# Altium footprint library CaRe_PCBLib.PcbLib: 40 footprints (part 2 of 3)
Each footprint in its own frame and in the unit in brackets; x right, y up, seen from the top. Pads: shape width x height; smd on the part's side, far side on the other; paste and mask are expansions set on the pad; w line width, h text height; cw(c..) or ccw(c..) is an arc to the next point about the centre after c.
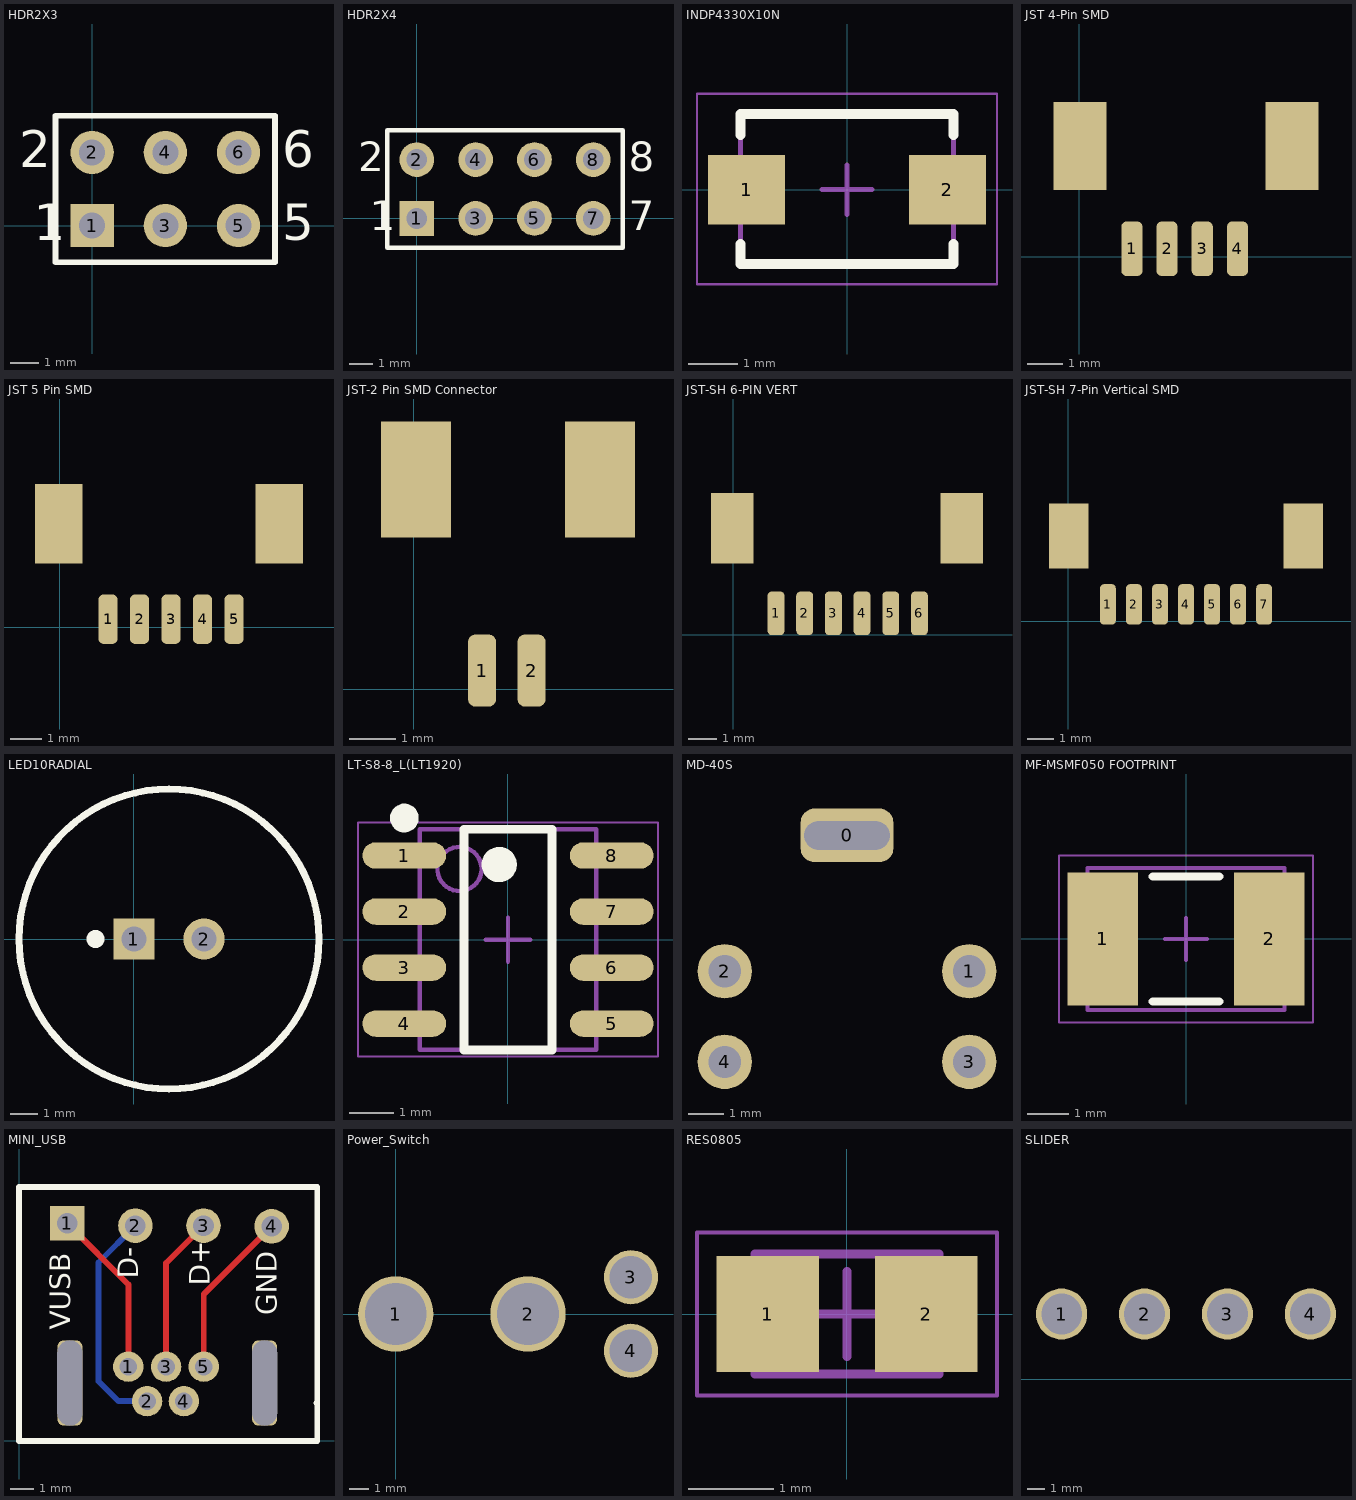
[diagram p1: the footprints below, top view; thin cyan lines are the x and y axes]

## HDR2X3 [mm] "Connector; Header; 3x2 Position"
pads (6):
  rect 1.5x1.5 hole 0.9: 1(0,0)
  round 1.5 hole 0.9: 2(0,2.54) 3(2.54,0) 4(2.54,2.54) 5(5.08,0) 6(5.08,2.54)
Top Overlay:
  lines w0.2: 1.482,-1.27 6.35,-1.27 ; 6.35,-1.27 6.35,3.81 -1.27,3.81 -1.27,-1.27 6.35,-1.27
  text "6" at 6.604,2.032 h1.27
  text "5" at 6.604,-0.508 h1.27
  text "2" at -2.54,2.032 h1.27
  text "1" at -2.032,-0.508 h1.27

## HDR2X4 [mm] "Connector; Header; 4x2 Position"
pads (8):
  rect 1.5x1.5 hole 0.9: 1(0,0)
  round 1.5 hole 0.9: 2(0,2.54) 3(2.54,0) 4(2.54,2.54) 5(5.08,0) 6(5.08,2.54) 7(7.62,0) 8(7.62,2.54)
Top Overlay:
  lines w0.2: -1.27,-1.27 8.89,-1.27 8.89,3.81 -1.27,3.81 -1.27,-1.27
  text "2" at -2.54,2.032 h1.27
  text "1" at -2.032,-0.508 h1.27
  text "7" at 9.144,-0.508 h1.27
  text "8" at 9.144,2.032 h1.27

## INDP4330X10N [mm] "Precision Wire Wound Inductor, 2-Leads, Body 4.30x3.00mm, IPC Medium Density"
height 1
pads (2):
  rect 1.55x1.4 smd: 1(-2.025,0) 2(2.025,0)
Top Overlay:
  lines w0.2: -2.15,-1.1 -2.15,-1.5 2.15,-1.5 2.15,-1.1 ; -2.15,1.1 -2.15,1.524 2.15,1.524 2.15,1.1
Mechanical 13:
  lines w0.1: -2.15,-1.5 -2.15,1.524 2.15,1.524 2.15,-1.5 -2.15,-1.5
Mechanical 15:
  lines w0.05: -3.025,-1.905 -3.025,1.93 3.025,1.93 3.025,-1.905 -3.025,-1.905
  lines w0.1: -0.5,0 0.5,0 ; 0,-0.5 0,0.5

## JST 4-Pin SMD [mm] "BM04B-SRSS-TB"
pads (6):
  rrect50% 0.6x1.55 smd: 1(1.499,0.229) 2(2.498,0.229) 3(3.497,0.229) 4(4.496,0.229)
  rect 1.5x2.5 smd: ""(0.025,3.15) ""(6.045,3.15)
3D body: height 4.25, standoff -0.07, extent 0,0 6,3.6

## JST 5 Pin SMD [mm] "BM05B-SRSS-TB"
pads (7):
  rrect50% 0.6x1.55 smd: 1(1.524,0.254) 2(2.515,0.254) 3(3.505,0.254) 4(4.496,0.254) 5(5.486,0.254)
  rect 1.5x2.5 smd: ""(-0.025,3.251) ""(6.909,3.251)
3D body: height -0.43, standoff -4.75, extent 0,0 7,3.6

## JST-2 Pin SMD Connector [mm] "SM02B-SRSS-TB"
pads (4):
  rrect50% 0.6x1.55 smd: 1(1.473,0.406) 2(2.54,0.406)
  rect 1.5x2.5 smd: ""(0.051,4.521) ""(4.013,4.521)
3D body: height 3.01, standoff 0.05, extent 0,0 4,4.95

## JST-SH 6-PIN VERT [mm]
pads (8):
  rrect50% 0.6x1.55 smd: 1(1.524,0.762) 2(2.54,0.762) 3(3.556,0.762) 4(4.572,0.762) 5(5.588,0.762) 6(6.604,0.762)
  rect 1.5x2.5 smd: ""(-0.025,3.785) ""(8.103,3.785)
3D body: height 4.25, standoff 0, extent 0.064,0.591 8.064,4.191

## JST-SH 7-Pin Vertical SMD [mm]
pads (9):
  rrect50% 0.6x1.55 smd: 1(1.524,0.635) 2(2.519,0.635) 3(3.514,0.635) 4(4.508,0.635) 5(5.503,0.635) 6(6.498,0.635) 7(7.493,0.635)
  rect 1.5x2.5 smd: ""(0.025,3.251) ""(8.992,3.251)
3D body: height 4.25, standoff -0.07, extent 0,0.21 9,3.81

## LED10RADIAL [mm] "Light Emitting Diode; 2 Leads"
pads (2):
  rect 1.5x1.5 hole 0.9: 1(0,0)
  round 1.5 hole 0.9: 2(2.54,0)
Top Overlay:
  circle w0.254: c1.27,0 r5.44
  circle w0.4: c-1.395,0 r0.125

## LT-S8-8_L(LT1920) [mm] "SOIC, 8-Leads, Body 4.9x3.9mm, Pitch 1.27mm, IPC High Density"
height 1.76
pads (8):
  oval 1.9x0.6 smd: 1(-2.35,1.905) 2(-2.35,0.635) 3(-2.35,-0.635) 4(-2.35,-1.905) 5(2.35,-1.905) 6(2.35,-0.635) 7(2.35,0.635) 8(2.35,1.905)
Top Overlay:
  circle w0.4: c-0.2,1.7 r0.2
  circle w0.4: c-2.35,2.755 r0.125
  lines w0.2: -1,-2.5 1,-2.5 1,2.5 -1,2.5 -1,-2.5
Mechanical 13:
  circle w0.1: c-1.1,1.6 r0.5
  lines w0.1: -2,-2.5 2,-2.5 2,2.5 -2,2.5 -2,-2.5
Mechanical 15:
  lines w0.05: -3.4,-2.65 3.4,-2.65 3.4,2.65 -3.4,2.65 -3.4,-2.65
  lines w0.1: -0.5,0 0.5,0 ; 0,-0.5 0,0.5
3D body: height 1.75, standoff 0, extent -3,-2.45 3,2.45

## MD-40S [mil]
pads (5):
  rrect50% 102.36x59.06 hole 31.5 slot 94.49 at 0 deg: 0(275,300)
  round 60 hole 35.43: 1(410,150) 2(140,150) 3(410,50) 4(140,50)
3D body: height 118.11, standoff -523.62, extent 0,-5 551.18,483.19

## MF-MSMF050 FOOTPRINT [mm] "PTC FUSE"
height 0.85
pads (2):
  rect 1.7x3.2 smd: 1(-2,0) 2(2,0)
Top Overlay:
  lines w0.2: -0.8,-1.5 0.8,-1.5 ; -0.8,1.5 0.8,1.5
Mechanical 13:
  lines w0.1: -2.365,-1.705 2.365,-1.705 2.365,1.705 -2.365,1.705 -2.365,-1.705
Mechanical 15:
  lines w0.05: -3.05,-2 3.05,-2 3.05,2 -3.05,2 -3.05,-2
  lines w0.1: -0.5,0 0.5,0 ; 0,-0.5 0,0.5
3D body: height 0.85, standoff 0, extent 1.965,-1.705 2.365,1.705
3D body: height 0.85, standoff 0, extent -2.365,-1.705 -1.965,1.705
3D body: height 0.85, standoff 0, extent -1.965,-1.705 1.965,1.705

## MINI_USB [mil]
pads (11):
  rect 59.06x59.06 hole 35.43: 1(82.49,372)
  round 52.13 hole 30: 1(187,127) 2(219,68) 3(251.5,127) 4(282,68) 5(316,127)
  round 59.06 hole 35.43: 2(199,368) 3(315.51,368) 4(432.02,367)
  rrect50% 42.52x145.67 hole 42.52 slot 145.67 at 90 deg unplated: ""(87,99) ""(420,99)
Top Layer:
  lines w10: 82.49,372 187,267.49 187,127 ; 251.5,127 251.5,303.99 315.51,368 ; 316,127 316,250.98 432.02,367
Bottom Layer:
  lines w10: 199,368 136,305 136,102 170,68 219,68
Top Overlay:
  lines w10: 509,0 0,0 0,434 510,434 510,0 ; 509,65 510,64
  text "GND" at 453,215 h60
  text "D+" at 338,265 h60
  text "D-" at 216,277 h60
  text "VUSB" at 100,190 h60
3D body: height 393.7, standoff -39.37, extent -142.7,-179.3 644.7,225.43

## Power_Switch [mm] "SPST Rocker w/ LED"
pads (4):
  round 3.9 hole 3.2: 1(0,0) 2(6.858,0)
  round 2.8 hole 2.2: 3(12.192,1.905) 4(12.192,-1.905)

## RES0805 [mm] "Chip Resistor, 2-Leads, Body 2.00x1.25mm, IPC Medium Density"
height 0.65
pads (2):
  rect 1.2x1.35 smd: 1(-0.925,0) 2(0.925,0)
Mechanical 13:
  lines w0.1: -1.075,-0.7 -1.075,0.7 1.075,0.7 1.075,-0.7 -1.075,-0.7
Mechanical 15:
  lines w0.05: -1.75,-0.95 -1.75,0.95 1.75,0.95 1.75,-0.95 -1.75,-0.95
  lines w0.1: -0.5,0 0.5,0 ; 0,-0.5 0,0.5
3D body: height 0.78, standoff 0, extent -1,-0.625 1,0.625

## SLIDER [mm]
pads (4):
  round 2.9 hole 2.3 unplated: 1(5.461,3.683) 2(10.16,3.683) 3(14.859,3.683) 4(19.558,3.683)
via 25.4,0 diameter 2.6 hole 2.4
via 0,0 diameter 2.6 hole 2.4